# Altium integrated library Analog_Devices_Power_Management_Linear_Regulators.IntLib: 441 symbols (part 15 of 23)
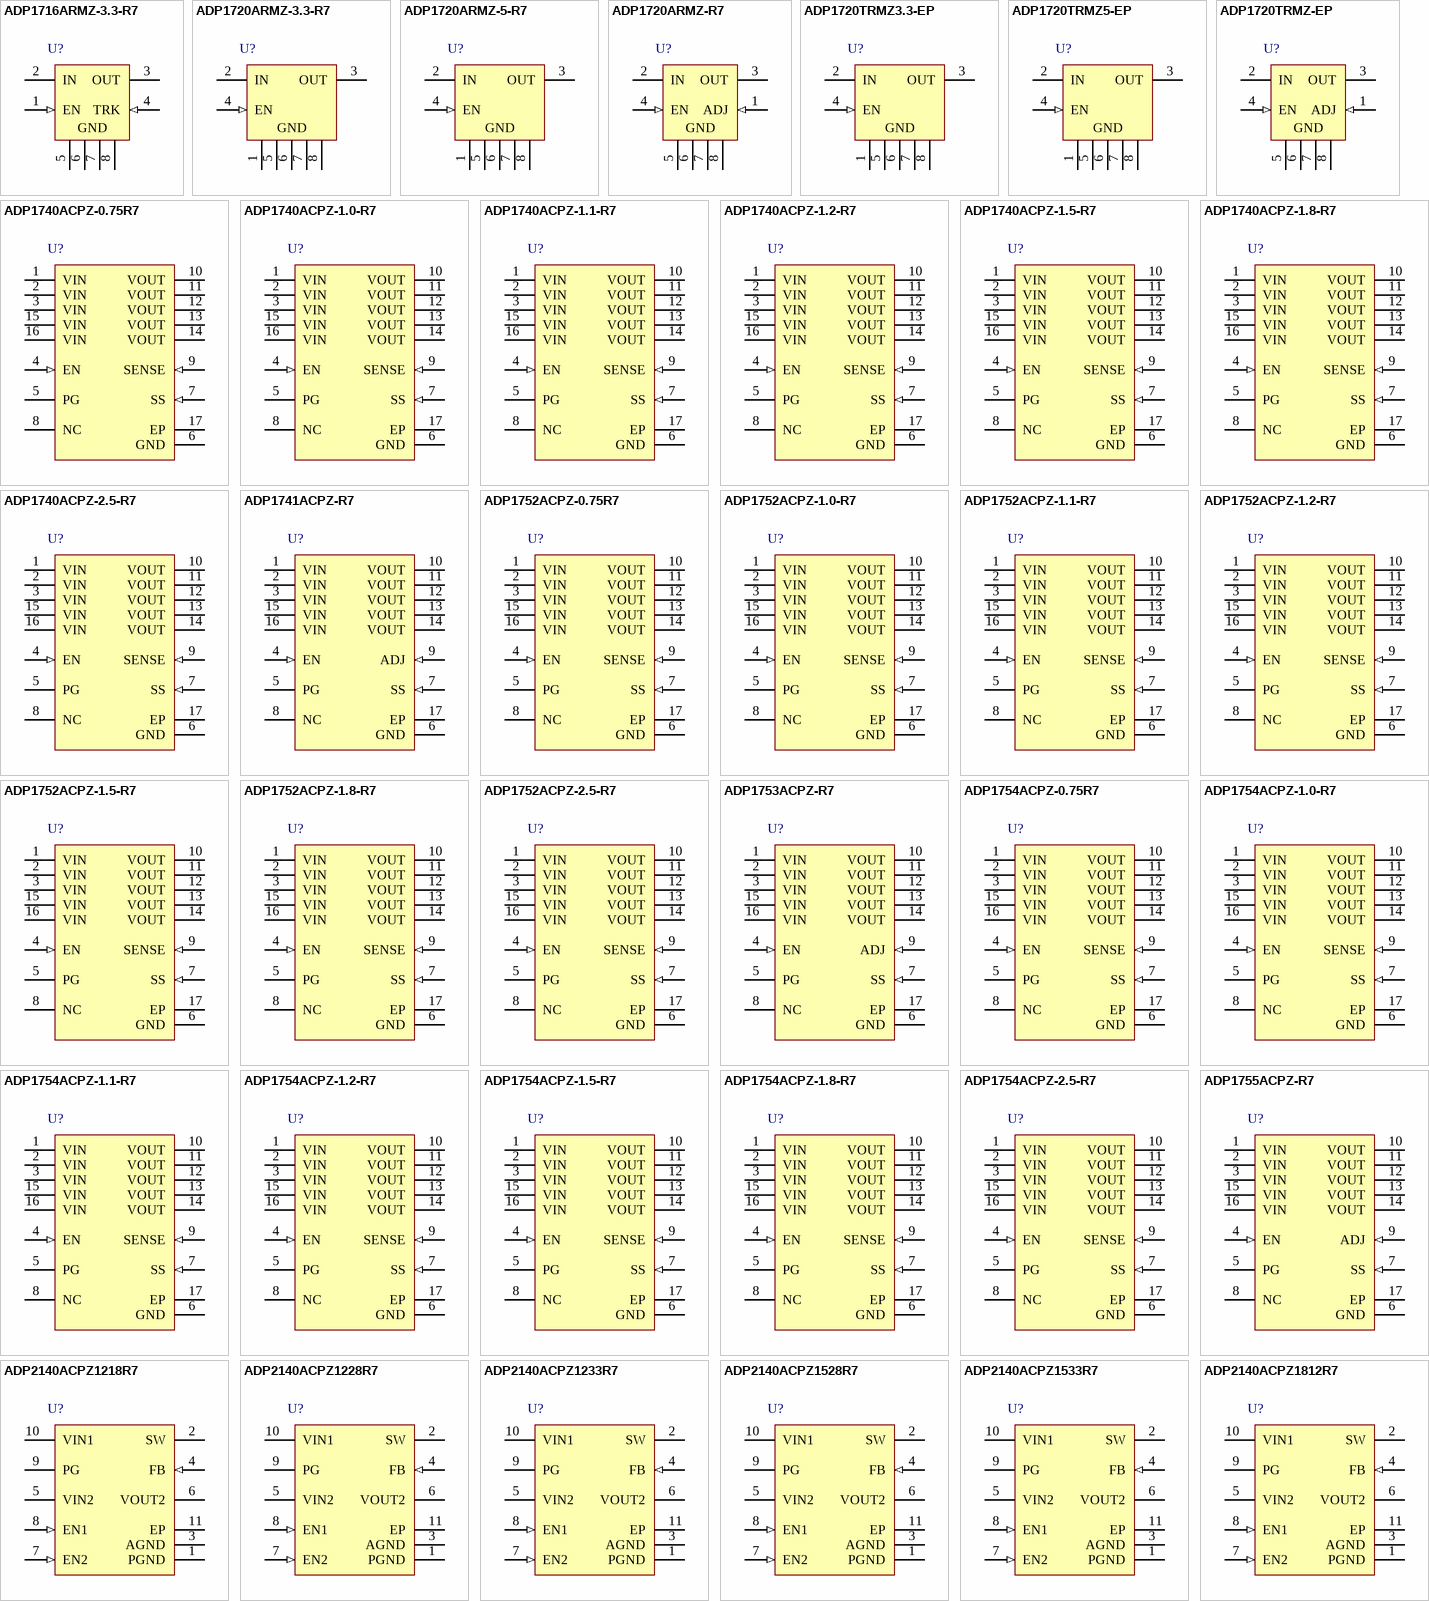
[diagram p25: symbols ADP1716ARMZ-3.3-R7 to ADP2140ACPZ1812R7]

## ADP1741ACPZ-R7
designator U?
2 A, Low VIN, Low Dropout Linear Regulator, 1.6 to 3.6 V Vin, 0.75 to 3 V Vout, Industrial, 16-pin QFN (CP-16-13), Reel; Manufacturer: Analog Devices; PartNumber: ADP1741ACPZ-R7; Iout max: 2A; Supply Current IGND @ Small Load: 90uA; Vin (max) (V): 3.6; Vin (min) (V): 1.6; Vout Adjustable Range: 0.75V to 3.3V; DatasheetVersion: Rev. D; PackageVersion: 031006-A, 06/2006; PackageReference: CP-16-13; PackageDescription: 16-Pin Lead Frame Chip Scale Package, Body 4 x 4 mm, Pitch 0.65 mm; Supplier 1: Digi-Key; Supplier Part Number 1: ADP1741ACPZ-R7TR-ND; Supplier 2: Digi-Key; Supplier Part Number 2: ADP1741ACPZ-R7CT-ND; Supplier 3: Digi-Key; Supplier Part Number 3: ADP1741ACPZ-R7DKR-ND; Supplier 4: Newark; Supplier Part Number 4: 72W4083; Supplier 5: Newark; Supplier Part Number 5: 34P3050; Supplier 6: Mouser; Supplier Part Number 6: 584-ADP1741ACPZ-R7; Packing: Reel; Mounting Technology: Surface Mount; Code_JEDEC: MO-220-VGGC.; ComponentLink1Description: Manufacturer URL; ComponentLink1URL: http://www.analog.com/en/index.html; ComponentLink2Description: Datasheet; ComponentLink2URL: http://www.analog.com/static/imported-files/data_sheets/ADP1740_1741.pdf; ComponentLink3Description: Package Specification; ComponentLink3URL: http://www.analog.com/static/imported-files/packages/PKG_PDF/LFCSP(CP)/CP-16/CP_16_13.pdf; ComponentLink4Description: URL Link1; ComponentLink4URL: Product URL:http://www.analog.com/en/ADP1741/productSearch.html
footprint ADI-CP-16-13_N (QFN, 16-Leads, Body 4x4mm, Pitch 0.65mm, Thermal Pad 2.5x2.5mm, IPC Medium Density)
footprint ADI-CP-16-13_L (QFN, 16-Leads, Body 4x4mm, Pitch 0.65mm, Thermal Pad 2.5x2.5mm, IPC High Density)
footprint ADI-CP-16-13_M (QFN, 16-Leads, Body 4x4mm, Pitch 0.65mm, Thermal Pad 2.5x2.5mm, IPC Low Density)
pins: 1 VIN (power) "Regulator Input Supply. Bypass VIN to GND with a 4.7 uF or greater capacitor. Note that all five VIN pins must be connected to the source supply.", 2 VIN (power) "Regulator Input Supply. Bypass VIN to GND with a 4.7 uF or greater capacitor. Note that all five VIN pins must be connected to the source supply.", 3 VIN (power) "Regulator Input Supply. Bypass VIN to GND with a 4.7 uF or greater capacitor. Note that all five VIN pins must be connected to the source supply.", 4 EN (in) "Enable Input. Drive EN high to turn on the regulator; drive it low to turn off the regulator. For automatic startup, connect EN to VIN", 5 PG (oc) "Power-Good Output. This open-drain output requires an external pull-up resistor to VIN. If the part is in shutdown mode, current-limit mode, or thermal shutdown, or if it falls below 90% of the nominal output voltage, the PG (See Datasheet)", 6 GND (power) "Ground.", 7 SS (in) "Soft Start Pin. A capacitor connected to this pin determines the soft start time.", 8 NC "Not Connected. No internal connection.", 9 ADJ (in) "Adjust Pin. A resistor divider from VOUT to ADJ sets the output voltage.", 10 VOUT (power) "Regulated Output Voltage. Bypass VOUT to GND with a 4.7 uF or greater capacitor. Note that all five VOUT pins must be connected to the load", 11 VOUT (power) "Regulated Output Voltage. Bypass VOUT to GND with a 4.7 uF or greater capacitor. Note that all five VOUT pins must be connected to the load", 12 VOUT (power) "Regulated Output Voltage. Bypass VOUT to GND with a 4.7 uF or greater capacitor. Note that all five VOUT pins must be connected to the load", 13 VOUT (power) "Regulated Output Voltage. Bypass VOUT to GND with a 4.7 uF or greater capacitor. Note that all five VOUT pins must be connected to the load", 14 VOUT (power) "Regulated Output Voltage. Bypass VOUT to GND with a 4.7 uF or greater capacitor. Note that all five VOUT pins must be connected to the load", 15 VIN (power) "Regulator Input Supply. Bypass VIN to GND with a 4.7 uF or greater capacitor. Note that all five VIN pins must be connected to the source supply.", 16 VIN (power) "Regulator Input Supply. Bypass VIN to GND with a 4.7 uF or greater capacitor. Note that all five VIN pins must be connected to the source supply.", 17 EP (power) "The exposed pad on the bottom of the LFCSP enhances thermal performance and is electrically connected to GND inside the package. It is recommended that the exposed pad be connected to the ground plane on the board."

## ADP1752ACPZ-0.75R7
designator U?
0.8 A, Low VIN, Low Dropout Linear Regulator, 1.6 to 3.6 V Vin, 0.75 V Vout, Industrial, 16-pin QFN (CP-16-4), Reel; Manufacturer: Analog Devices; PartNumber: ADP1752ACPZ-0.75R7; Iout max: 800mA; Preset Vout Values (V): 0.75; Supply Current IGND @ Small Load: 90uA; Vin (max) (V): 3.6; Vin (min) (V): 1.6; DatasheetVersion: Rev. D; PackageVersion: 010606-0, 01/2006; PackageReference: CP-16-4; PackageDescription: 16-Pin Lead Frame Chip Scale Package, Body 4 x 4 mm, Pitch 0.65 mm; Supplier 1: Digi-Key; Supplier Part Number 1: ADP1752ACPZ-0.75R7TR-ND; Supplier 2: Digi-Key; Supplier Part Number 2: ADP1752ACPZ-0.75R7CT-ND; Supplier 3: Digi-Key; Supplier Part Number 3: ADP1752ACPZ-0.75R7DKR-ND; Supplier 4: Mouser; Supplier Part Number 4: 584-AP1752ACPZ0.75R7; Packing: Reel; Mounting Technology: Surface Mount; Code_JEDEC: MO-220-VGGC; ComponentLink1Description: Manufacturer URL; ComponentLink1URL: http://www.analog.com/en/index.html; ComponentLink2Description: Datasheet; ComponentLink2URL: http://www.analog.com/static/imported-files/data_sheets/ADP1752_1753.pdf; ComponentLink3Description: Package Specification; ComponentLink3URL: http://www.analog.com/static/imported-files/packages/46009454504174339653421710019CP_16_4.pdf; ComponentLink4Description: URL Link1; ComponentLink4URL: Product URL:http://www.analog.com/en/ADP1752/productSearch.html
footprint CP-16-4_N (QFN, 16-Leads, Body 4x4mm, Pitch 0.65mm, Thermal Pad 2.1x2.1mm, IPC Medium Density)
footprint CP-16-4_L (QFN, 16-Leads, Body 4x4mm, Pitch 0.65mm, Thermal Pad 2.1x2.1mm, IPC High Density)
footprint CP-16-4_M (QFN, 16-Leads, Body 4x4mm, Pitch 0.65mm, Thermal Pad 2.1x2.1mm, IPC Low Density)
pins: 1 VIN (power) "Regulator Input Supply. Bypass VIN to GND with a 4.7 uF or greater capacitor. Note that all five VIN pins must be connected to the source.", 2 VIN (power) "Regulator Input Supply. Bypass VIN to GND with a 4.7 uF or greater capacitor. Note that all five VIN pins must be connected to the source.", 3 VIN (power) "Regulator Input Supply. Bypass VIN to GND with a 4.7 uF or greater capacitor. Note that all five VIN pins must be connected to the source.", 4 EN (in) "Enable Input. Drive EN high to turn on the regulator; drive it low to turn off the regulator. For automatic startup, connect EN to VIN.", 5 PG (oc) "Power Good. This open-drain output requires an external pull-up resistor to VIN. If the part is in shutdown mode, current-limit mode, thermal shutdown, or if it falls below 90% of the nominal output voltage, PG immediately (See Datasheet)", 6 GND (power) "Ground.", 7 SS (in) "Soft Start. A capacitor connected to this pin determines the soft start time.", 8 NC "Not Connected. No internal connection.", 9 SENSE (in) "Sense. This pin measures the actual output voltage at the load and feeds it to the error amplifier. Connect SENSE as close as possible to the load to minimize the effect of IR drop between the regulator output and the load.", 10 VOUT (power) "Regulated Output Voltage. Bypass VOUT to GND with a 4.7 uF or greater capacitor. Note that all five VOUT pins must be connected to the load.", 11 VOUT (power) "Regulated Output Voltage. Bypass VOUT to GND with a 4.7 uF or greater capacitor. Note that all five VOUT pins must be connected to the load.", 12 VOUT (power) "Regulated Output Voltage. Bypass VOUT to GND with a 4.7 uF or greater capacitor. Note that all five VOUT pins must be connected to the load.", 13 VOUT (power) "Regulated Output Voltage. Bypass VOUT to GND with a 4.7 uF or greater capacitor. Note that all five VOUT pins must be connected to the load.", 14 VOUT (power) "Regulated Output Voltage. Bypass VOUT to GND with a 4.7 uF or greater capacitor. Note that all five VOUT pins must be connected to the load.", 15 VIN (power) "Regulator Input Supply. Bypass VIN to GND with a 4.7 uF or greater capacitor. Note that all five VIN pins must be connected to the source.", 16 VIN (power) "Regulator Input Supply. Bypass VIN to GND with a 4.7 uF or greater capacitor. Note that all five VIN pins must be connected to the source.", 17 EP (power) "The exposed pad on the bottom of the LFCSP package enhances thermal performance and is electrically connected to GND inside the package. It is recommended that the exposed pad be connected to the ground plane on the board."

## ADP1752ACPZ-1.0-R7
designator U?
0.8 A, Low VIN, Low Dropout Linear Regulator, 1.6 to 3.6 V Vin, 1 V Vout, Industrial, 16-pin QFN (CP-16-4), Reel; Manufacturer: Analog Devices; PartNumber: ADP1752ACPZ-1.0-R7; Iout max: 800mA; Preset Vout Values (V): 1; Supply Current IGND @ Small Load: 90uA; Vin (max) (V): 3.6; Vin (min) (V): 1.6; DatasheetVersion: Rev. D; PackageVersion: 010606-0, 01/2006; PackageReference: CP-16-4; PackageDescription: 16-Pin Lead Frame Chip Scale Package, Body 4 x 4 mm, Pitch 0.65 mm; Supplier 1: Digi-Key; Supplier Part Number 1: ADP1752ACPZ-1.0-R7TR-ND; Supplier 2: Digi-Key; Supplier Part Number 2: ADP1752ACPZ-1.0-R7CT-ND; Supplier 3: Digi-Key; Supplier Part Number 3: ADP1752ACPZ-1.0-R7DKR-ND; Supplier 4: Mouser; Supplier Part Number 4: 584-ADP1752ACPZ1.0R7; Packing: Reel; Mounting Technology: Surface Mount; Code_JEDEC: MO-220-VGGC; ComponentLink1Description: Manufacturer URL; ComponentLink1URL: http://www.analog.com/en/index.html; ComponentLink2Description: Datasheet; ComponentLink2URL: http://www.analog.com/static/imported-files/data_sheets/ADP1752_1753.pdf; ComponentLink3Description: Package Specification; ComponentLink3URL: http://www.analog.com/static/imported-files/packages/46009454504174339653421710019CP_16_4.pdf; ComponentLink4Description: URL Link1; ComponentLink4URL: Product URL:http://www.analog.com/en/ADP1752/productSearch.html
footprint CP-16-4_N (QFN, 16-Leads, Body 4x4mm, Pitch 0.65mm, Thermal Pad 2.1x2.1mm, IPC Medium Density)
footprint CP-16-4_L (QFN, 16-Leads, Body 4x4mm, Pitch 0.65mm, Thermal Pad 2.1x2.1mm, IPC High Density)
footprint CP-16-4_M (QFN, 16-Leads, Body 4x4mm, Pitch 0.65mm, Thermal Pad 2.1x2.1mm, IPC Low Density)
pins: 1 VIN (power) "Regulator Input Supply. Bypass VIN to GND with a 4.7 uF or greater capacitor. Note that all five VIN pins must be connected to the source.", 2 VIN (power) "Regulator Input Supply. Bypass VIN to GND with a 4.7 uF or greater capacitor. Note that all five VIN pins must be connected to the source.", 3 VIN (power) "Regulator Input Supply. Bypass VIN to GND with a 4.7 uF or greater capacitor. Note that all five VIN pins must be connected to the source.", 4 EN (in) "Enable Input. Drive EN high to turn on the regulator; drive it low to turn off the regulator. For automatic startup, connect EN to VIN.", 5 PG (oc) "Power Good. This open-drain output requires an external pull-up resistor to VIN. If the part is in shutdown mode, current-limit mode, thermal shutdown, or if it falls below 90% of the nominal output voltage, PG immediately (See Datasheet)", 6 GND (power) "Ground.", 7 SS (in) "Soft Start. A capacitor connected to this pin determines the soft start time.", 8 NC "Not Connected. No internal connection.", 9 SENSE (in) "Sense. This pin measures the actual output voltage at the load and feeds it to the error amplifier. Connect SENSE as close as possible to the load to minimize the effect of IR drop between the regulator output and the load.", 10 VOUT (power) "Regulated Output Voltage. Bypass VOUT to GND with a 4.7 uF or greater capacitor. Note that all five VOUT pins must be connected to the load.", 11 VOUT (power) "Regulated Output Voltage. Bypass VOUT to GND with a 4.7 uF or greater capacitor. Note that all five VOUT pins must be connected to the load.", 12 VOUT (power) "Regulated Output Voltage. Bypass VOUT to GND with a 4.7 uF or greater capacitor. Note that all five VOUT pins must be connected to the load.", 13 VOUT (power) "Regulated Output Voltage. Bypass VOUT to GND with a 4.7 uF or greater capacitor. Note that all five VOUT pins must be connected to the load.", 14 VOUT (power) "Regulated Output Voltage. Bypass VOUT to GND with a 4.7 uF or greater capacitor. Note that all five VOUT pins must be connected to the load.", 15 VIN (power) "Regulator Input Supply. Bypass VIN to GND with a 4.7 uF or greater capacitor. Note that all five VIN pins must be connected to the source.", 16 VIN (power) "Regulator Input Supply. Bypass VIN to GND with a 4.7 uF or greater capacitor. Note that all five VIN pins must be connected to the source.", 17 EP (power) "The exposed pad on the bottom of the LFCSP package enhances thermal performance and is electrically connected to GND inside the package. It is recommended that the exposed pad be connected to the ground plane on the board."

## ADP1752ACPZ-1.1-R7
designator U?
0.8 A, Low VIN, Low Dropout Linear Regulator, 1.6 to 3.6 V Vin, 1.1 V Vout, Industrial, 16-pin QFN (CP-16-4), Reel; Manufacturer: Analog Devices; PartNumber: ADP1752ACPZ-1.1-R7; Iout max: 800mA; Preset Vout Values (V): 1.1; Supply Current IGND @ Small Load: 90uA; Vin (max) (V): 3.6; Vin (min) (V): 1.6; DatasheetVersion: Rev. D; PackageVersion: 010606-0, 01/2006; PackageReference: CP-16-4; PackageDescription: 16-Pin Lead Frame Chip Scale Package, Body 4 x 4 mm, Pitch 0.65 mm; Supplier 1: Digi-Key; Supplier Part Number 1: ADP1752ACPZ-1.1-R7TR-ND; Supplier 2: Digi-Key; Supplier Part Number 2: ADP1752ACPZ-1.1-R7CT-ND; Supplier 3: Digi-Key; Supplier Part Number 3: ADP1752ACPZ-1.1-R7DKR-ND; Supplier 4: Mouser; Supplier Part Number 4: 584-ADP1752ACPZ1.1R7; Packing: Reel; Mounting Technology: Surface Mount; Code_JEDEC: MO-220-VGGC; ComponentLink1Description: Manufacturer URL; ComponentLink1URL: http://www.analog.com/en/index.html; ComponentLink2Description: Datasheet; ComponentLink2URL: http://www.analog.com/static/imported-files/data_sheets/ADP1752_1753.pdf; ComponentLink3Description: Package Specification; ComponentLink3URL: http://www.analog.com/static/imported-files/packages/46009454504174339653421710019CP_16_4.pdf; ComponentLink4Description: URL Link1; ComponentLink4URL: Product URL:http://www.analog.com/en/ADP1752/productSearch.html
footprint CP-16-4_N (QFN, 16-Leads, Body 4x4mm, Pitch 0.65mm, Thermal Pad 2.1x2.1mm, IPC Medium Density)
footprint CP-16-4_L (QFN, 16-Leads, Body 4x4mm, Pitch 0.65mm, Thermal Pad 2.1x2.1mm, IPC High Density)
footprint CP-16-4_M (QFN, 16-Leads, Body 4x4mm, Pitch 0.65mm, Thermal Pad 2.1x2.1mm, IPC Low Density)
pins: 1 VIN (power) "Regulator Input Supply. Bypass VIN to GND with a 4.7 uF or greater capacitor. Note that all five VIN pins must be connected to the source.", 2 VIN (power) "Regulator Input Supply. Bypass VIN to GND with a 4.7 uF or greater capacitor. Note that all five VIN pins must be connected to the source.", 3 VIN (power) "Regulator Input Supply. Bypass VIN to GND with a 4.7 uF or greater capacitor. Note that all five VIN pins must be connected to the source.", 4 EN (in) "Enable Input. Drive EN high to turn on the regulator; drive it low to turn off the regulator. For automatic startup, connect EN to VIN.", 5 PG (oc) "Power Good. This open-drain output requires an external pull-up resistor to VIN. If the part is in shutdown mode, current-limit mode, thermal shutdown, or if it falls below 90% of the nominal output voltage, PG immediately (See Datasheet)", 6 GND (power) "Ground.", 7 SS (in) "Soft Start. A capacitor connected to this pin determines the soft start time.", 8 NC "Not Connected. No internal connection.", 9 SENSE (in) "Sense. This pin measures the actual output voltage at the load and feeds it to the error amplifier. Connect SENSE as close as possible to the load to minimize the effect of IR drop between the regulator output and the load.", 10 VOUT (power) "Regulated Output Voltage. Bypass VOUT to GND with a 4.7 uF or greater capacitor. Note that all five VOUT pins must be connected to the load.", 11 VOUT (power) "Regulated Output Voltage. Bypass VOUT to GND with a 4.7 uF or greater capacitor. Note that all five VOUT pins must be connected to the load.", 12 VOUT (power) "Regulated Output Voltage. Bypass VOUT to GND with a 4.7 uF or greater capacitor. Note that all five VOUT pins must be connected to the load.", 13 VOUT (power) "Regulated Output Voltage. Bypass VOUT to GND with a 4.7 uF or greater capacitor. Note that all five VOUT pins must be connected to the load.", 14 VOUT (power) "Regulated Output Voltage. Bypass VOUT to GND with a 4.7 uF or greater capacitor. Note that all five VOUT pins must be connected to the load.", 15 VIN (power) "Regulator Input Supply. Bypass VIN to GND with a 4.7 uF or greater capacitor. Note that all five VIN pins must be connected to the source.", 16 VIN (power) "Regulator Input Supply. Bypass VIN to GND with a 4.7 uF or greater capacitor. Note that all five VIN pins must be connected to the source.", 17 EP (power) "The exposed pad on the bottom of the LFCSP package enhances thermal performance and is electrically connected to GND inside the package. It is recommended that the exposed pad be connected to the ground plane on the board."

## ADP1752ACPZ-1.2-R7
designator U?
0.8 A, Low VIN, Low Dropout Linear Regulator, 1.6 to 3.6 V Vin, 1.2 V Vout, Industrial, 16-pin QFN (CP-16-4), Reel; Manufacturer: Analog Devices; PartNumber: ADP1752ACPZ-1.2-R7; Iout max: 800mA; Preset Vout Values (V): 1.2; Supply Current IGND @ Small Load: 90uA; Vin (max) (V): 3.6; Vin (min) (V): 1.6; DatasheetVersion: Rev. D; PackageVersion: 010606-0, 01/2006; PackageReference: CP-16-4; PackageDescription: 16-Pin Lead Frame Chip Scale Package, Body 4 x 4 mm, Pitch 0.65 mm; Supplier 1: Digi-Key; Supplier Part Number 1: ADP1752ACPZ-1.2-R7TR-ND; Supplier 2: Digi-Key; Supplier Part Number 2: ADP1752ACPZ-1.2-R7CT-ND; Supplier 3: Digi-Key; Supplier Part Number 3: ADP1752ACPZ-1.2-R7DKR-ND; Supplier 4: Mouser; Supplier Part Number 4: 584-ADP1752ACPZ1.2R7; Packing: Reel; Mounting Technology: Surface Mount; Code_JEDEC: MO-220-VGGC; ComponentLink1Description: Manufacturer URL; ComponentLink1URL: http://www.analog.com/en/index.html; ComponentLink2Description: Datasheet; ComponentLink2URL: http://www.analog.com/static/imported-files/data_sheets/ADP1752_1753.pdf; ComponentLink3Description: Package Specification; ComponentLink3URL: http://www.analog.com/static/imported-files/packages/46009454504174339653421710019CP_16_4.pdf; ComponentLink4Description: URL Link1; ComponentLink4URL: Product URL:http://www.analog.com/en/ADP1752/productSearch.html
footprint CP-16-4_N (QFN, 16-Leads, Body 4x4mm, Pitch 0.65mm, Thermal Pad 2.1x2.1mm, IPC Medium Density)
footprint CP-16-4_L (QFN, 16-Leads, Body 4x4mm, Pitch 0.65mm, Thermal Pad 2.1x2.1mm, IPC High Density)
footprint CP-16-4_M (QFN, 16-Leads, Body 4x4mm, Pitch 0.65mm, Thermal Pad 2.1x2.1mm, IPC Low Density)
pins: 1 VIN (power) "Regulator Input Supply. Bypass VIN to GND with a 4.7 uF or greater capacitor. Note that all five VIN pins must be connected to the source.", 2 VIN (power) "Regulator Input Supply. Bypass VIN to GND with a 4.7 uF or greater capacitor. Note that all five VIN pins must be connected to the source.", 3 VIN (power) "Regulator Input Supply. Bypass VIN to GND with a 4.7 uF or greater capacitor. Note that all five VIN pins must be connected to the source.", 4 EN (in) "Enable Input. Drive EN high to turn on the regulator; drive it low to turn off the regulator. For automatic startup, connect EN to VIN.", 5 PG (oc) "Power Good. This open-drain output requires an external pull-up resistor to VIN. If the part is in shutdown mode, current-limit mode, thermal shutdown, or if it falls below 90% of the nominal output voltage, PG immediately (See Datasheet)", 6 GND (power) "Ground.", 7 SS (in) "Soft Start. A capacitor connected to this pin determines the soft start time.", 8 NC "Not Connected. No internal connection.", 9 SENSE (in) "Sense. This pin measures the actual output voltage at the load and feeds it to the error amplifier. Connect SENSE as close as possible to the load to minimize the effect of IR drop between the regulator output and the load.", 10 VOUT (power) "Regulated Output Voltage. Bypass VOUT to GND with a 4.7 uF or greater capacitor. Note that all five VOUT pins must be connected to the load.", 11 VOUT (power) "Regulated Output Voltage. Bypass VOUT to GND with a 4.7 uF or greater capacitor. Note that all five VOUT pins must be connected to the load.", 12 VOUT (power) "Regulated Output Voltage. Bypass VOUT to GND with a 4.7 uF or greater capacitor. Note that all five VOUT pins must be connected to the load.", 13 VOUT (power) "Regulated Output Voltage. Bypass VOUT to GND with a 4.7 uF or greater capacitor. Note that all five VOUT pins must be connected to the load.", 14 VOUT (power) "Regulated Output Voltage. Bypass VOUT to GND with a 4.7 uF or greater capacitor. Note that all five VOUT pins must be connected to the load.", 15 VIN (power) "Regulator Input Supply. Bypass VIN to GND with a 4.7 uF or greater capacitor. Note that all five VIN pins must be connected to the source.", 16 VIN (power) "Regulator Input Supply. Bypass VIN to GND with a 4.7 uF or greater capacitor. Note that all five VIN pins must be connected to the source.", 17 EP (power) "The exposed pad on the bottom of the LFCSP package enhances thermal performance and is electrically connected to GND inside the package. It is recommended that the exposed pad be connected to the ground plane on the board."

## ADP1752ACPZ-1.5-R7
designator U?
0.8 A, Low VIN, Low Dropout Linear Regulator, 1.6 to 3.6 V Vin, 1.5 V Vout, Industrial, 16-pin QFN (CP-16-4), Reel; Manufacturer: Analog Devices; PartNumber: ADP1752ACPZ-1.5-R7; Iout max: 800mA; Preset Vout Values (V): 1.5; Supply Current IGND @ Small Load: 90uA; Vin (max) (V): 3.6; Vin (min) (V): 1.6; DatasheetVersion: Rev. D; PackageVersion: 010606-0, 01/2006; PackageReference: CP-16-4; PackageDescription: 16-Pin Lead Frame Chip Scale Package, Body 4 x 4 mm, Pitch 0.65 mm; Supplier 1: Digi-Key; Supplier Part Number 1: ADP1752ACPZ-1.5-R7TR-ND; Supplier 2: Digi-Key; Supplier Part Number 2: ADP1752ACPZ-1.5-R7CT-ND; Supplier 3: Digi-Key; Supplier Part Number 3: ADP1752ACPZ-1.5-R7DKR-ND; Supplier 4: Mouser; Supplier Part Number 4: 584-ADP1752ACPZ1.5R7; Packing: Reel; Mounting Technology: Surface Mount; Code_JEDEC: MO-220-VGGC; ComponentLink1Description: Manufacturer URL; ComponentLink1URL: http://www.analog.com/en/index.html; ComponentLink2Description: Datasheet; ComponentLink2URL: http://www.analog.com/static/imported-files/data_sheets/ADP1752_1753.pdf; ComponentLink3Description: Package Specification; ComponentLink3URL: http://www.analog.com/static/imported-files/packages/46009454504174339653421710019CP_16_4.pdf; ComponentLink4Description: URL Link1; ComponentLink4URL: Product URL:http://www.analog.com/en/ADP1752/productSearch.html
footprint CP-16-4_N (QFN, 16-Leads, Body 4x4mm, Pitch 0.65mm, Thermal Pad 2.1x2.1mm, IPC Medium Density)
footprint CP-16-4_L (QFN, 16-Leads, Body 4x4mm, Pitch 0.65mm, Thermal Pad 2.1x2.1mm, IPC High Density)
footprint CP-16-4_M (QFN, 16-Leads, Body 4x4mm, Pitch 0.65mm, Thermal Pad 2.1x2.1mm, IPC Low Density)
pins: 1 VIN (power) "Regulator Input Supply. Bypass VIN to GND with a 4.7 uF or greater capacitor. Note that all five VIN pins must be connected to the source.", 2 VIN (power) "Regulator Input Supply. Bypass VIN to GND with a 4.7 uF or greater capacitor. Note that all five VIN pins must be connected to the source.", 3 VIN (power) "Regulator Input Supply. Bypass VIN to GND with a 4.7 uF or greater capacitor. Note that all five VIN pins must be connected to the source.", 4 EN (in) "Enable Input. Drive EN high to turn on the regulator; drive it low to turn off the regulator. For automatic startup, connect EN to VIN.", 5 PG (oc) "Power Good. This open-drain output requires an external pull-up resistor to VIN. If the part is in shutdown mode, current-limit mode, thermal shutdown, or if it falls below 90% of the nominal output voltage, PG immediately (See Datasheet)", 6 GND (power) "Ground.", 7 SS (in) "Soft Start. A capacitor connected to this pin determines the soft start time.", 8 NC "Not Connected. No internal connection.", 9 SENSE (in) "Sense. This pin measures the actual output voltage at the load and feeds it to the error amplifier. Connect SENSE as close as possible to the load to minimize the effect of IR drop between the regulator output and the load.", 10 VOUT (power) "Regulated Output Voltage. Bypass VOUT to GND with a 4.7 uF or greater capacitor. Note that all five VOUT pins must be connected to the load.", 11 VOUT (power) "Regulated Output Voltage. Bypass VOUT to GND with a 4.7 uF or greater capacitor. Note that all five VOUT pins must be connected to the load.", 12 VOUT (power) "Regulated Output Voltage. Bypass VOUT to GND with a 4.7 uF or greater capacitor. Note that all five VOUT pins must be connected to the load.", 13 VOUT (power) "Regulated Output Voltage. Bypass VOUT to GND with a 4.7 uF or greater capacitor. Note that all five VOUT pins must be connected to the load.", 14 VOUT (power) "Regulated Output Voltage. Bypass VOUT to GND with a 4.7 uF or greater capacitor. Note that all five VOUT pins must be connected to the load.", 15 VIN (power) "Regulator Input Supply. Bypass VIN to GND with a 4.7 uF or greater capacitor. Note that all five VIN pins must be connected to the source.", 16 VIN (power) "Regulator Input Supply. Bypass VIN to GND with a 4.7 uF or greater capacitor. Note that all five VIN pins must be connected to the source.", 17 EP (power) "The exposed pad on the bottom of the LFCSP package enhances thermal performance and is electrically connected to GND inside the package. It is recommended that the exposed pad be connected to the ground plane on the board."

## ADP1752ACPZ-1.8-R7
designator U?
0.8 A, Low VIN, Low Dropout Linear Regulator, 1.6 to 3.6 V Vin, 1.8 V Vout, Industrial, 16-pin QFN (CP-16-4), Reel; Manufacturer: Analog Devices; PartNumber: ADP1752ACPZ-1.8-R7; Iout max: 800mA; Preset Vout Values (V): 1.8; Supply Current IGND @ Small Load: 90uA; Vin (max) (V): 3.6; Vin (min) (V): 1.6; DatasheetVersion: Rev. D; PackageVersion: 010606-0, 01/2006; PackageReference: CP-16-4; PackageDescription: 16-Pin Lead Frame Chip Scale Package, Body 4 x 4 mm, Pitch 0.65 mm; Supplier 1: Digi-Key; Supplier Part Number 1: ADP1752ACPZ-1.8-R7TR-ND; Supplier 2: Digi-Key; Supplier Part Number 2: ADP1752ACPZ-1.8-R7CT-ND; Supplier 3: Digi-Key; Supplier Part Number 3: ADP1752ACPZ-1.8-R7DKR-ND; Supplier 4: Newark; Supplier Part Number 4: 34P3057; Supplier 5: Mouser; Supplier Part Number 5: 584-ADP1752ACPZ1.8R7; Packing: Reel; Mounting Technology: Surface Mount; Code_JEDEC: MO-220-VGGC; ComponentLink1Description: Manufacturer URL; ComponentLink1URL: http://www.analog.com/en/index.html; ComponentLink2Description: Datasheet; ComponentLink2URL: http://www.analog.com/static/imported-files/data_sheets/ADP1752_1753.pdf; ComponentLink3Description: Package Specification; ComponentLink3URL: http://www.analog.com/static/imported-files/packages/46009454504174339653421710019CP_16_4.pdf; ComponentLink4Description: URL Link1; ComponentLink4URL: Product URL:http://www.analog.com/en/ADP1752/productSearch.html
footprint CP-16-4_N (QFN, 16-Leads, Body 4x4mm, Pitch 0.65mm, Thermal Pad 2.1x2.1mm, IPC Medium Density)
footprint CP-16-4_L (QFN, 16-Leads, Body 4x4mm, Pitch 0.65mm, Thermal Pad 2.1x2.1mm, IPC High Density)
footprint CP-16-4_M (QFN, 16-Leads, Body 4x4mm, Pitch 0.65mm, Thermal Pad 2.1x2.1mm, IPC Low Density)
pins: 1 VIN (power) "Regulator Input Supply. Bypass VIN to GND with a 4.7 uF or greater capacitor. Note that all five VIN pins must be connected to the source.", 2 VIN (power) "Regulator Input Supply. Bypass VIN to GND with a 4.7 uF or greater capacitor. Note that all five VIN pins must be connected to the source.", 3 VIN (power) "Regulator Input Supply. Bypass VIN to GND with a 4.7 uF or greater capacitor. Note that all five VIN pins must be connected to the source.", 4 EN (in) "Enable Input. Drive EN high to turn on the regulator; drive it low to turn off the regulator. For automatic startup, connect EN to VIN.", 5 PG (oc) "Power Good. This open-drain output requires an external pull-up resistor to VIN. If the part is in shutdown mode, current-limit mode, thermal shutdown, or if it falls below 90% of the nominal output voltage, PG immediately (See Datasheet)", 6 GND (power) "Ground.", 7 SS (in) "Soft Start. A capacitor connected to this pin determines the soft start time.", 8 NC "Not Connected. No internal connection.", 9 SENSE (in) "Sense. This pin measures the actual output voltage at the load and feeds it to the error amplifier. Connect SENSE as close as possible to the load to minimize the effect of IR drop between the regulator output and the load.", 10 VOUT (power) "Regulated Output Voltage. Bypass VOUT to GND with a 4.7 uF or greater capacitor. Note that all five VOUT pins must be connected to the load.", 11 VOUT (power) "Regulated Output Voltage. Bypass VOUT to GND with a 4.7 uF or greater capacitor. Note that all five VOUT pins must be connected to the load.", 12 VOUT (power) "Regulated Output Voltage. Bypass VOUT to GND with a 4.7 uF or greater capacitor. Note that all five VOUT pins must be connected to the load.", 13 VOUT (power) "Regulated Output Voltage. Bypass VOUT to GND with a 4.7 uF or greater capacitor. Note that all five VOUT pins must be connected to the load.", 14 VOUT (power) "Regulated Output Voltage. Bypass VOUT to GND with a 4.7 uF or greater capacitor. Note that all five VOUT pins must be connected to the load.", 15 VIN (power) "Regulator Input Supply. Bypass VIN to GND with a 4.7 uF or greater capacitor. Note that all five VIN pins must be connected to the source.", 16 VIN (power) "Regulator Input Supply. Bypass VIN to GND with a 4.7 uF or greater capacitor. Note that all five VIN pins must be connected to the source.", 17 EP (power) "The exposed pad on the bottom of the LFCSP package enhances thermal performance and is electrically connected to GND inside the package. It is recommended that the exposed pad be connected to the ground plane on the board."

## ADP1752ACPZ-2.5-R7
designator U?
0.8 A, Low VIN, Low Dropout Linear Regulator, 1.6 to 3.6 V Vin, 2.5 V Vout, Industrial, 16-pin QFN (CP-16-4), Reel; Manufacturer: Analog Devices; PartNumber: ADP1752ACPZ-2.5-R7; Iout max: 800mA; Preset Vout Values (V): 2.5; Supply Current IGND @ Small Load: 90uA; Vin (max) (V): 3.6; Vin (min) (V): 1.6; DatasheetVersion: Rev. D; PackageVersion: 010606-0, 01/2006; PackageReference: CP-16-4; PackageDescription: 16-Pin Lead Frame Chip Scale Package, Body 4 x 4 mm, Pitch 0.65 mm; Supplier 1: Digi-Key; Supplier Part Number 1: ADP1752ACPZ-2.5-R7TR-ND; Supplier 2: Digi-Key; Supplier Part Number 2: ADP1752ACPZ-2.5-R7CT-ND; Supplier 3: Digi-Key; Supplier Part Number 3: ADP1752ACPZ-2.5-R7DKR-ND; Supplier 4: Mouser; Supplier Part Number 4: 584-ADP1752ACPZ2.5R7; Packing: Reel; Mounting Technology: Surface Mount; Code_JEDEC: MO-220-VGGC; ComponentLink1Description: Manufacturer URL; ComponentLink1URL: http://www.analog.com/en/index.html; ComponentLink2Description: Datasheet; ComponentLink2URL: http://www.analog.com/static/imported-files/data_sheets/ADP1752_1753.pdf; ComponentLink3Description: Package Specification; ComponentLink3URL: http://www.analog.com/static/imported-files/packages/46009454504174339653421710019CP_16_4.pdf; ComponentLink4Description: URL Link1; ComponentLink4URL: Product URL:http://www.analog.com/en/ADP1752/productSearch.html
footprint CP-16-4_N (QFN, 16-Leads, Body 4x4mm, Pitch 0.65mm, Thermal Pad 2.1x2.1mm, IPC Medium Density)
footprint CP-16-4_L (QFN, 16-Leads, Body 4x4mm, Pitch 0.65mm, Thermal Pad 2.1x2.1mm, IPC High Density)
footprint CP-16-4_M (QFN, 16-Leads, Body 4x4mm, Pitch 0.65mm, Thermal Pad 2.1x2.1mm, IPC Low Density)
pins: 1 VIN (power) "Regulator Input Supply. Bypass VIN to GND with a 4.7 uF or greater capacitor. Note that all five VIN pins must be connected to the source.", 2 VIN (power) "Regulator Input Supply. Bypass VIN to GND with a 4.7 uF or greater capacitor. Note that all five VIN pins must be connected to the source.", 3 VIN (power) "Regulator Input Supply. Bypass VIN to GND with a 4.7 uF or greater capacitor. Note that all five VIN pins must be connected to the source.", 4 EN (in) "Enable Input. Drive EN high to turn on the regulator; drive it low to turn off the regulator. For automatic startup, connect EN to VIN.", 5 PG (oc) "Power Good. This open-drain output requires an external pull-up resistor to VIN. If the part is in shutdown mode, current-limit mode, thermal shutdown, or if it falls below 90% of the nominal output voltage, PG immediately (See Datasheet)", 6 GND (power) "Ground.", 7 SS (in) "Soft Start. A capacitor connected to this pin determines the soft start time.", 8 NC "Not Connected. No internal connection.", 9 SENSE (in) "Sense. This pin measures the actual output voltage at the load and feeds it to the error amplifier. Connect SENSE as close as possible to the load to minimize the effect of IR drop between the regulator output and the load.", 10 VOUT (power) "Regulated Output Voltage. Bypass VOUT to GND with a 4.7 uF or greater capacitor. Note that all five VOUT pins must be connected to the load.", 11 VOUT (power) "Regulated Output Voltage. Bypass VOUT to GND with a 4.7 uF or greater capacitor. Note that all five VOUT pins must be connected to the load.", 12 VOUT (power) "Regulated Output Voltage. Bypass VOUT to GND with a 4.7 uF or greater capacitor. Note that all five VOUT pins must be connected to the load.", 13 VOUT (power) "Regulated Output Voltage. Bypass VOUT to GND with a 4.7 uF or greater capacitor. Note that all five VOUT pins must be connected to the load.", 14 VOUT (power) "Regulated Output Voltage. Bypass VOUT to GND with a 4.7 uF or greater capacitor. Note that all five VOUT pins must be connected to the load.", 15 VIN (power) "Regulator Input Supply. Bypass VIN to GND with a 4.7 uF or greater capacitor. Note that all five VIN pins must be connected to the source.", 16 VIN (power) "Regulator Input Supply. Bypass VIN to GND with a 4.7 uF or greater capacitor. Note that all five VIN pins must be connected to the source.", 17 EP (power) "The exposed pad on the bottom of the LFCSP package enhances thermal performance and is electrically connected to GND inside the package. It is recommended that the exposed pad be connected to the ground plane on the board."

## ADP1753ACPZ-R7
designator U?
0.8 A, Low VIN, Low Dropout Linear Regulator, 1.6 to 3.6 V Vin, 0.75 to 3 V Vout, Industrial, 16-pin QFN (CP-16-4), Reel; Manufacturer: Analog Devices; PartNumber: ADP1753ACPZ-R7; Iout max: 800mA; Supply Current IGND @ Small Load: 90uA; Vin (max) (V): 3.6; Vin (min) (V): 1.6; Vout Adjustable Range: 0.75V to 3.3V; DatasheetVersion: Rev. D; PackageVersion: 010606-0, 01/2006; PackageReference: CP-16-4; PackageDescription: 16-Pin Lead Frame Chip Scale Package, Body 4 x 4 mm, Pitch 0.65 mm; Supplier 1: Digi-Key; Supplier Part Number 1: ADP1753ACPZ-R7TR-ND; Supplier 2: Digi-Key; Supplier Part Number 2: ADP1753ACPZ-R7CT-ND; Supplier 3: Digi-Key; Supplier Part Number 3: ADP1753ACPZ-R7DKR-ND; Supplier 4: Newark; Supplier Part Number 4: 34P3059; Supplier 5: Mouser; Supplier Part Number 5: 584-ADP1753ACPZ-R7; Packing: Reel; Mounting Technology: Surface Mount; Code_JEDEC: MO-220-VGGC; ComponentLink1Description: Manufacturer URL; ComponentLink1URL: http://www.analog.com/en/index.html; ComponentLink2Description: Datasheet; ComponentLink2URL: http://www.analog.com/static/imported-files/data_sheets/ADP1752_1753.pdf; ComponentLink3Description: Package Specification; ComponentLink3URL: http://www.analog.com/static/imported-files/packages/46009454504174339653421710019CP_16_4.pdf; ComponentLink4Description: URL Link1; ComponentLink4URL: Product URL:http://www.analog.com/en/ADP1753/productSearch.html
footprint CP-16-4_N (QFN, 16-Leads, Body 4x4mm, Pitch 0.65mm, Thermal Pad 2.1x2.1mm, IPC Medium Density)
footprint CP-16-4_L (QFN, 16-Leads, Body 4x4mm, Pitch 0.65mm, Thermal Pad 2.1x2.1mm, IPC High Density)
footprint CP-16-4_M (QFN, 16-Leads, Body 4x4mm, Pitch 0.65mm, Thermal Pad 2.1x2.1mm, IPC Low Density)
pins: 1 VIN (power) "Regulator Input Supply. Bypass VIN to GND with a 4.7 uF or greater capacitor. Note that all five VIN pins must be connected to the source.", 2 VIN (power) "Regulator Input Supply. Bypass VIN to GND with a 4.7 uF or greater capacitor. Note that all five VIN pins must be connected to the source.", 3 VIN (power) "Regulator Input Supply. Bypass VIN to GND with a 4.7 uF or greater capacitor. Note that all five VIN pins must be connected to the source.", 4 EN (in) "Enable Input. Drive EN high to turn on the regulator; drive it low to turn off the regulator. For automatic startup, connect EN to VIN.", 5 PG (oc) "Power Good. This open-drain output requires an external pull-up resistor to VIN. If the part is in shutdown mode, current-limit mode, thermal shutdown, or if it falls below 90% of the nominal output voltage, PG immediately (See Datasheet)", 6 GND (power) "Ground.", 7 SS (in) "Soft Start. A capacitor connected to this pin determines the soft start time.", 8 NC "Not Connected. No internal connection.", 9 ADJ (in) "Adjust. A resistor divider from VOUT to ADJ sets the output voltage.", 10 VOUT (power) "Regulated Output Voltage. Bypass VOUT to GND with a 4.7 uF or greater capacitor. Note that all five VOUT pins must be connected to the load.", 11 VOUT (power) "Regulated Output Voltage. Bypass VOUT to GND with a 4.7 uF or greater capacitor. Note that all five VOUT pins must be connected to the load.", 12 VOUT (power) "Regulated Output Voltage. Bypass VOUT to GND with a 4.7 uF or greater capacitor. Note that all five VOUT pins must be connected to the load.", 13 VOUT (power) "Regulated Output Voltage. Bypass VOUT to GND with a 4.7 uF or greater capacitor. Note that all five VOUT pins must be connected to the load.", 14 VOUT (power) "Regulated Output Voltage. Bypass VOUT to GND with a 4.7 uF or greater capacitor. Note that all five VOUT pins must be connected to the load.", 15 VIN (power) "Regulator Input Supply. Bypass VIN to GND with a 4.7 uF or greater capacitor. Note that all five VIN pins must be connected to the source.", 16 VIN (power) "Regulator Input Supply. Bypass VIN to GND with a 4.7 uF or greater capacitor. Note that all five VIN pins must be connected to the source.", 17 EP (power) "The exposed pad on the bottom of the LFCSP package enhances thermal performance and is electrically connected to GND inside the package. It is recommended that the exposed pad be connected to the ground plane on the board."

## ADP1754ACPZ-0.75R7
designator U?
1.2 A, Low VIN, Low Dropout Linear Regulator, 1.6 to 3.6 V Vin, 0.75 V Vout, Industrial, 16-pin QFN (CP-16-4), Reel; Manufacturer: Analog Devices; PartNumber: ADP1754ACPZ-0.75R7; Iout max: 1.2A; Preset Vout Values (V): 0.75; Supply Current IGND @ Small Load: 90uA; Vin (max) (V): 3.6; Vin (min) (V): 1.6; DatasheetVersion: Rev. D; PackageVersion: 010606-0, 01/2006; PackageReference: CP-16-4; PackageDescription: 16-Pin Lead Frame Chip Scale Package, Body 4 x 4 mm, Pitch 0.65 mm; Supplier 1: Digi-Key; Supplier Part Number 1: ADP1754ACPZ-0.75R7TR-ND; Supplier 2: Digi-Key; Supplier Part Number 2: ADP1754ACPZ-0.75R7CT-ND; Supplier 3: Digi-Key; Supplier Part Number 3: ADP1754ACPZ-0.75R7DKR-ND; Supplier 4: Mouser; Supplier Part Number 4: 584-AP1754ACPZ0.75R7; Packing: Reel; Mounting Technology: Surface Mount; Code_JEDEC: MO-220-VGGC; ComponentLink1Description: Manufacturer URL; ComponentLink1URL: http://www.analog.com/en/index.html; ComponentLink2Description: Datasheet; ComponentLink2URL: http://www.analog.com/static/imported-files/data_sheets/ADP1754_1755.pdf; ComponentLink3Description: Package Specification; ComponentLink3URL: http://www.analog.com/static/imported-files/packages/46009454504174339653421710019CP_16_4.pdf; ComponentLink4Description: URL Link1; ComponentLink4URL: Product URL:http://www.analog.com/en/ADP1754/productSearch.html
footprint CP-16-4_N (QFN, 16-Leads, Body 4x4mm, Pitch 0.65mm, Thermal Pad 2.1x2.1mm, IPC Medium Density)
footprint CP-16-4_L (QFN, 16-Leads, Body 4x4mm, Pitch 0.65mm, Thermal Pad 2.1x2.1mm, IPC High Density)
footprint CP-16-4_M (QFN, 16-Leads, Body 4x4mm, Pitch 0.65mm, Thermal Pad 2.1x2.1mm, IPC Low Density)
pins: 1 VIN (power) "Regulator Input Supply. Bypass VIN to GND with a 4.7 uF or greater capacitor. Note that all five VIN pins must be connected to the source supply.", 2 VIN (power) "Regulator Input Supply. Bypass VIN to GND with a 4.7 uF or greater capacitor. Note that all five VIN pins must be connected to the source supply.", 3 VIN (power) "Regulator Input Supply. Bypass VIN to GND with a 4.7 uF or greater capacitor. Note that all five VIN pins must be connected to the source supply.", 4 EN (in) "Enable Input. Drive EN high to turn on the regulator; drive it low to turn off the regulator. For automatic startup, connect EN to VIN", 5 PG (oc) "Power-Good Output. This open-drain output requires an external pull-up resistor to VIN. If the part is in shutdown mode, current-limit mode, or thermal shutdown, or if it falls below 90% of the nominal output voltage, the PG (See Datasheet)", 6 GND (power) "Ground.", 7 SS (in) "Soft Start Pin. A capacitor connected to this pin determines the soft start time.", 8 NC "Not Connected. No internal connection.", 9 SENSE (in) "Sense Input. This pin measures the actual output voltage at the load and feeds it to the error amplifier. Connect the SENSE pin as close to the load as possible to minimize the effect of IR drop between the regulator output (See Datasheet)", 10 VOUT (power) "Regulated Output Voltage. Bypass VOUT to GND with a 4.7 uF or greater capacitor. Note that all five VOUT pins must be connected to the load", 11 VOUT (power) "Regulated Output Voltage. Bypass VOUT to GND with a 4.7 uF or greater capacitor. Note that all five VOUT pins must be connected to the load", 12 VOUT (power) "Regulated Output Voltage. Bypass VOUT to GND with a 4.7 uF or greater capacitor. Note that all five VOUT pins must be connected to the load", 13 VOUT (power) "Regulated Output Voltage. Bypass VOUT to GND with a 4.7 uF or greater capacitor. Note that all five VOUT pins must be connected to the load", 14 VOUT (power) "Regulated Output Voltage. Bypass VOUT to GND with a 4.7 uF or greater capacitor. Note that all five VOUT pins must be connected to the load", 15 VIN (power) "Regulator Input Supply. Bypass VIN to GND with a 4.7 uF or greater capacitor. Note that all five VIN pins must be connected to the source supply.", 16 VIN (power) "Regulator Input Supply. Bypass VIN to GND with a 4.7 uF or greater capacitor. Note that all five VIN pins must be connected to the source supply.", 17 EP (power) "The exposed pad on the bottom of the LFCSP enhances thermal performance and is electrically connected to GND inside the package. It is recommended that the exposed pad be connected to the ground plane on the board."

## ADP1754ACPZ-1.0-R7
designator U?
1.2 A, Low VIN, Low Dropout Linear Regulator, 1.6 to 3.6 V Vin, 1 V Vout, Industrial, 16-pin QFN (CP-16-4), Reel; Manufacturer: Analog Devices; PartNumber: ADP1754ACPZ-1.0-R7; Iout max: 1.2A; Preset Vout Values (V): 1; Supply Current IGND @ Small Load: 90uA; Vin (max) (V): 3.6; Vin (min) (V): 1.6; DatasheetVersion: Rev. D; PackageVersion: 010606-0, 01/2006; PackageReference: CP-16-4; PackageDescription: 16-Pin Lead Frame Chip Scale Package, Body 4 x 4 mm, Pitch 0.65 mm; Supplier 1: Digi-Key; Supplier Part Number 1: ADP1754ACPZ-1.0-R7TR-ND; Supplier 2: Digi-Key; Supplier Part Number 2: ADP1754ACPZ-1.0-R7CT-ND; Supplier 3: Digi-Key; Supplier Part Number 3: ADP1754ACPZ-1.0-R7DKR-ND; Supplier 4: Mouser; Supplier Part Number 4: 584-ADP1754ACPZ1.0R7; Packing: Reel; Mounting Technology: Surface Mount; Code_JEDEC: MO-220-VGGC; ComponentLink1Description: Manufacturer URL; ComponentLink1URL: http://www.analog.com/en/index.html; ComponentLink2Description: Datasheet; ComponentLink2URL: http://www.analog.com/static/imported-files/data_sheets/ADP1754_1755.pdf; ComponentLink3Description: Package Specification; ComponentLink3URL: http://www.analog.com/static/imported-files/packages/46009454504174339653421710019CP_16_4.pdf; ComponentLink4Description: URL Link1; ComponentLink4URL: Product URL:http://www.analog.com/en/ADP1754/productSearch.html
footprint CP-16-4_N (QFN, 16-Leads, Body 4x4mm, Pitch 0.65mm, Thermal Pad 2.1x2.1mm, IPC Medium Density)
footprint CP-16-4_L (QFN, 16-Leads, Body 4x4mm, Pitch 0.65mm, Thermal Pad 2.1x2.1mm, IPC High Density)
footprint CP-16-4_M (QFN, 16-Leads, Body 4x4mm, Pitch 0.65mm, Thermal Pad 2.1x2.1mm, IPC Low Density)
pins: 1 VIN (power) "Regulator Input Supply. Bypass VIN to GND with a 4.7 uF or greater capacitor. Note that all five VIN pins must be connected to the source supply.", 2 VIN (power) "Regulator Input Supply. Bypass VIN to GND with a 4.7 uF or greater capacitor. Note that all five VIN pins must be connected to the source supply.", 3 VIN (power) "Regulator Input Supply. Bypass VIN to GND with a 4.7 uF or greater capacitor. Note that all five VIN pins must be connected to the source supply.", 4 EN (in) "Enable Input. Drive EN high to turn on the regulator; drive it low to turn off the regulator. For automatic startup, connect EN to VIN", 5 PG (oc) "Power-Good Output. This open-drain output requires an external pull-up resistor to VIN. If the part is in shutdown mode, current-limit mode, or thermal shutdown, or if it falls below 90% of the nominal output voltage, the PG (See Datasheet)", 6 GND (power) "Ground.", 7 SS (in) "Soft Start Pin. A capacitor connected to this pin determines the soft start time.", 8 NC "Not Connected. No internal connection.", 9 SENSE (in) "Sense Input. This pin measures the actual output voltage at the load and feeds it to the error amplifier. Connect the SENSE pin as close to the load as possible to minimize the effect of IR drop between the regulator output (See Datasheet)", 10 VOUT (power) "Regulated Output Voltage. Bypass VOUT to GND with a 4.7 uF or greater capacitor. Note that all five VOUT pins must be connected to the load", 11 VOUT (power) "Regulated Output Voltage. Bypass VOUT to GND with a 4.7 uF or greater capacitor. Note that all five VOUT pins must be connected to the load", 12 VOUT (power) "Regulated Output Voltage. Bypass VOUT to GND with a 4.7 uF or greater capacitor. Note that all five VOUT pins must be connected to the load", 13 VOUT (power) "Regulated Output Voltage. Bypass VOUT to GND with a 4.7 uF or greater capacitor. Note that all five VOUT pins must be connected to the load", 14 VOUT (power) "Regulated Output Voltage. Bypass VOUT to GND with a 4.7 uF or greater capacitor. Note that all five VOUT pins must be connected to the load", 15 VIN (power) "Regulator Input Supply. Bypass VIN to GND with a 4.7 uF or greater capacitor. Note that all five VIN pins must be connected to the source supply.", 16 VIN (power) "Regulator Input Supply. Bypass VIN to GND with a 4.7 uF or greater capacitor. Note that all five VIN pins must be connected to the source supply.", 17 EP (power) "The exposed pad on the bottom of the LFCSP enhances thermal performance and is electrically connected to GND inside the package. It is recommended that the exposed pad be connected to the ground plane on the board."